# Altium schematic symbol library Bobina220.SchLib: 1 symbol
Pins are listed as number, name and electrical type; pins without a type are passive.

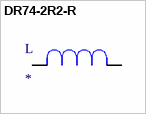
[diagram p0: symbol DR74-2R2-R]

## DR74-2R2-R
designator L
2.2ÂµH Shielded Wirewound Inductor 4.76A 12.6mOhm Nonstandard; MP: DR74-2R2-R; MF: Eaton; Package: Nonstandard Eaton; Price: None; Availability: Unavailable; Value: *; SnapEDA_Link: https://www.snapeda.com/parts/DR74-2R2-R/Eaton/view-part/2774133/?ref=snap
footprint INDM7676X435N
pins: 1, 2